# Altium schematic symbol library ICs.SchLib: 162 symbols (part 2 of 2)
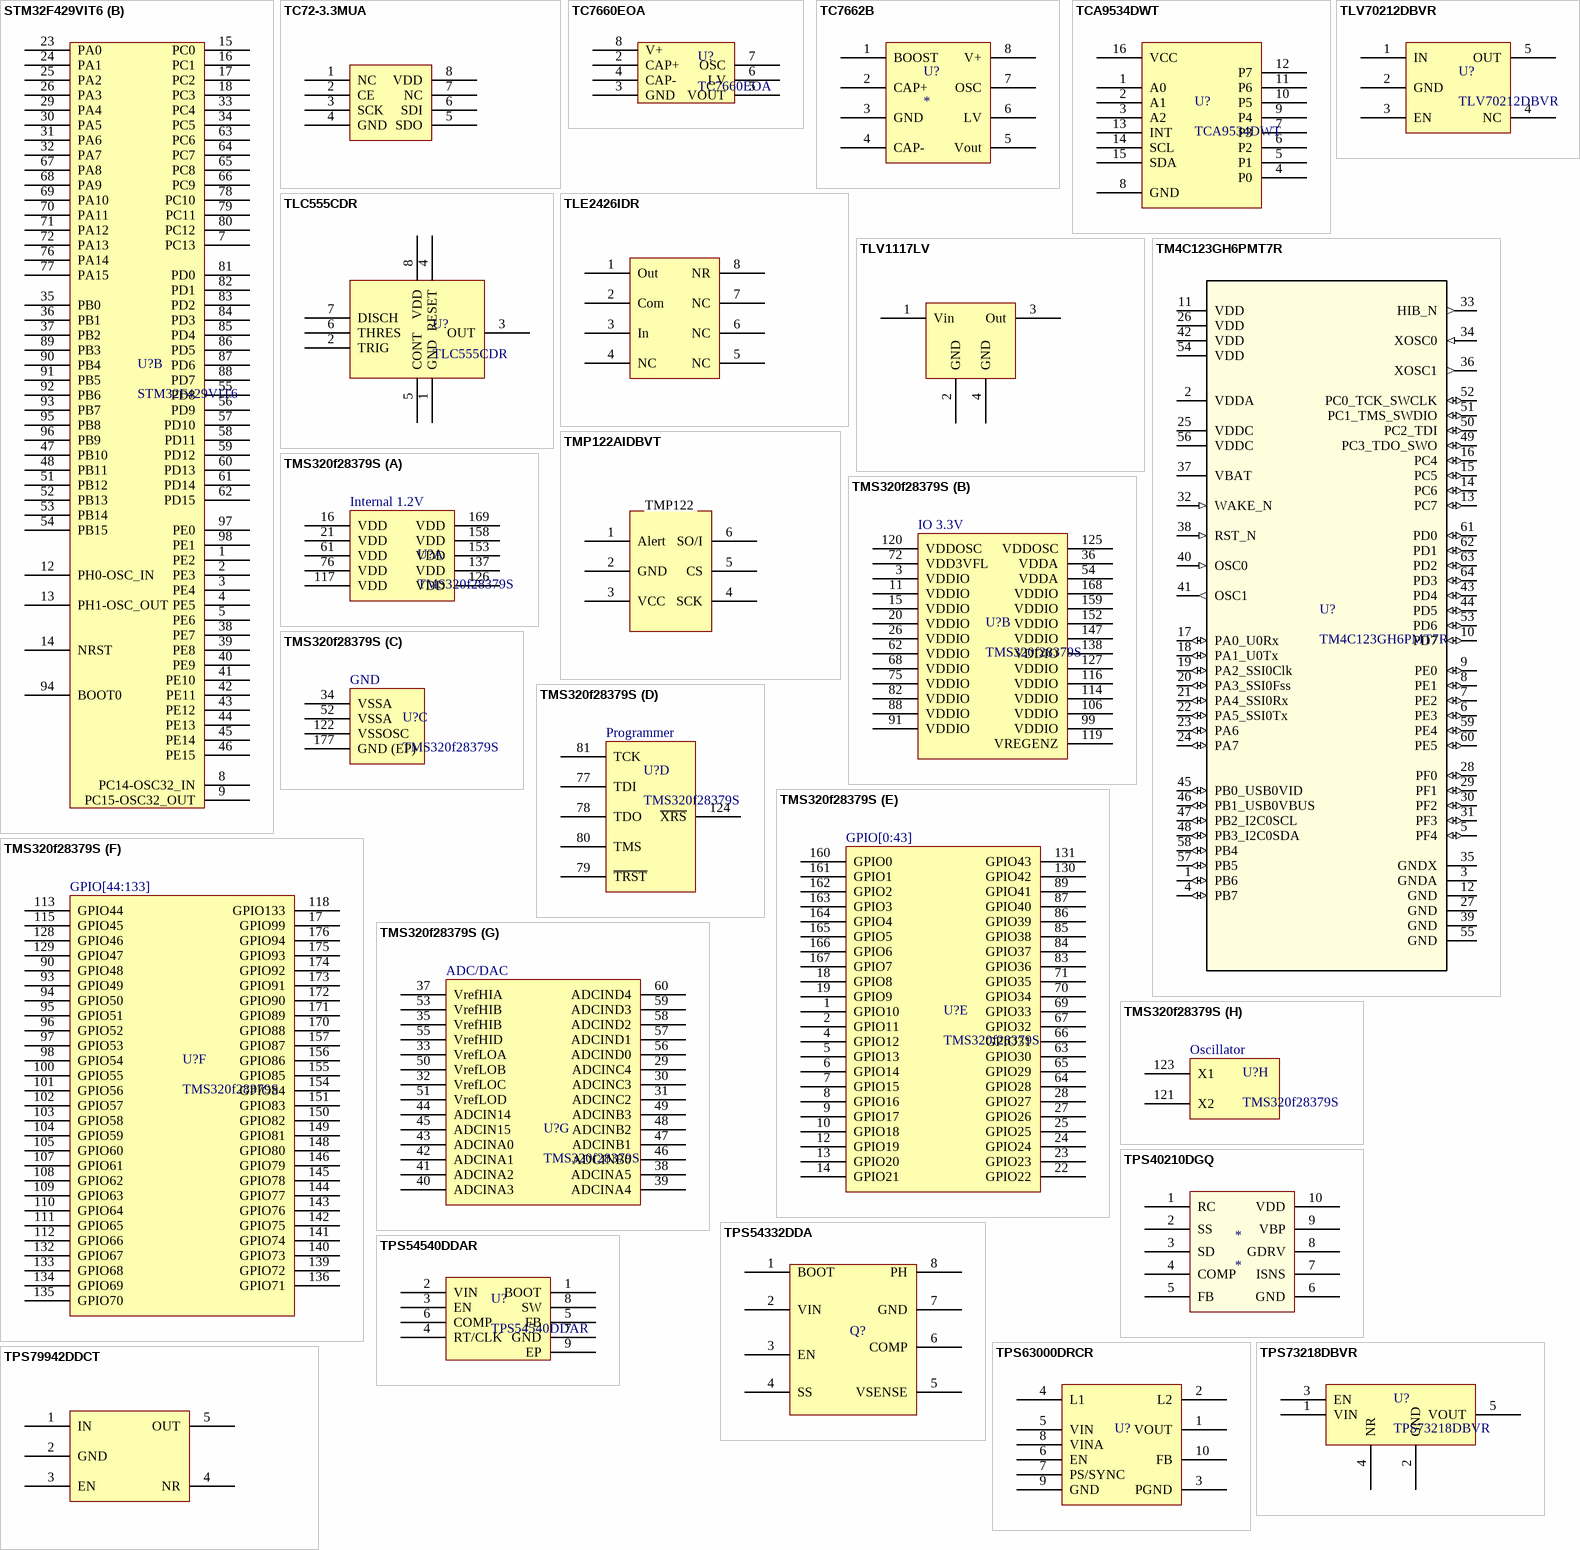
[diagram p9: symbols STM32F429VIT6 to TPS79942DDCT]

## TCA9534DWT
designator U?
IC I/O EXPANDER I2C 8B 16-SOIC; Manufacturer 1: Texas Instruments; Supplier 1: Digi-Key; Supplier Part Number 1: 296-45201-1-ND; Manufacturer Part Number 1: TCA9534DWT; ComponentLink1URL: http://www.ti.com/lit/ds/symlink/tca9534.pdf; ComponentLink1Description: Datasheet; ComponentLink2URL: http://www.ti.com/product/TCA9534/technicaldocuments; ComponentLink2Description: Website
footprint TCA9534DWT (IC I/O EXPANDER I2C 8B 16SOIC)
pins: 1 A0, 2 A1, 3 A2, 4 P0, 5 P1, 6 P2, 7 P3, 8 GND, 9 P4, 10 P5, 11 P6, 12 P7, 13 INT, 14 SCL, 15 SDA, 16 VCC

## TLC555CDR
designator U?
IC OSC MONO TIMING 2.1MHZ 8-SOIC; Supplier 1: Digi-Key; Supplier Part Number 1: 296-1336-1-ND
footprint TLC555CDR
pins: 1 GND, 2 TRIG, 3 OUT, 4 RESET, 5 CONT, 6 THRES, 7 DISCH, 8 VDD

## TLE2426IDR
designator U?, comment VRef Adj 2-20V
IC VREF GND REF ADJ 8SOIC; Supplier 1: Digi-Key; Supplier Part Number 1: 296-1345-1-ND
footprint SOIC-8pin (For 296-1345-1-ND)
pins: 1 Out, 2 Com, 3 In, 4 NC, 5 NC, 6 NC, 7 NC, 8 NR

## TLV1117LV
designator U?, comment 3.3V LDO Reg
IC REG LDO 3.3V 1A SOT223; Supplier 1: Digi-Key; Supplier Part Number 1: LM3940IMPX-3.3/NOPBCT-ND
footprint SOT23-4n (SOT223, 4-Leads, Body 6.50x7.00mm (avg), Pitch 2.30mm, IPC Medium Density)
pins: 1 Vin, 2 GND, 3 Out, 4 GND

## TLV70212DBVR
designator U?
IC REG LDO 1.2V 0.3A SOT23-5; Supplier 1: Digi-Key; Supplier Part Number 1: 296-29583-1-ND
footprint SOT23-5N (For LP5907)
pins: 1 IN, 2 GND, 3 EN, 4 NC, 5 OUT

## TM4C123GH6PMT7R
designator U?
Imported; PartNumber: TM4C123GH6PMTR; Manufacturer: Texas Instruments; CompType: IC; PIN_COUNT: 64; Application_BuildNumber: *; Alternate_PartNumber: TM4C123GH6PMT; PackageReference: PM0064A; MountType: SMT; RoHS: Y; RefDes: RefDes; TYPE: TYPE; Value: Value
footprint TM4C123GH6PMT7R_L
footprint TM4C123GH6PMT7R_M
footprint TM4C123GH6PMT7R_N
pins: 1 PB6 (io), 2 VDDA (power), 3 GNDA (power), 4 PB7 (io), 5 PF4 (io), 6 PE3 (io), 7 PE2 (io), 8 PE1 (io), 9 PE0 (io), 10 PD7 (io), 11 VDD (power), 12 GND (power), 13 PC7 (io), 14 PC6 (io), 15 PC5 (io), 16 PC4 (io), 17 PA0_U0Rx (io), 18 PA1_U0Tx (io), 19 PA2_SSI0Clk (io), 20 PA3_SSI0Fss (io), 21 PA4_SSI0Rx (io), 22 PA5_SSI0Tx (io), 23 PA6 (io), 24 PA7 (io), 25 VDDC (power), 26 VDD (power), 27 GND (power), 28 PF0 (io), 29 PF1 (io), 30 PF2 (io), 31 PF3 (io), 32 WAKE_N (in), 33 HIB_N (out), 34 XOSC0 (in), 35 GNDX (power), 36 XOSC1 (out), 37 VBAT (power), 38 RST_N (in), 39 GND (power), 40 OSC0 (in), 41 OSC1 (out), 42 VDD (power), 43 PD4 (io), 44 PD5 (io), 45 PB0_USB0VID (io), 46 PB1_USB0VBUS (io), 47 PB2_I2C0SCL (io), 48 PB3_I2C0SDA (io), 49 PC3_TDO_SWO (io), 50 PC2_TDI (io), 51 PC1_TMS_SWDIO (io), 52 PC0_TCK_SWCLK (io), 53 PD6 (io), 54 VDD (power), 55 GND (power), 56 VDDC (power), 57 PB5 (io), 58 PB4 (io), 59 PE4 (io), 60 PE5 (io), 61 PD0 (io), 62 PD1 (io), 63 PD2 (io), 64 PD3 (io)

## TMP122AIDBVT
designator TMP?, comment 296-15178-1-ND
SPI Temperature Sensor
footprint TMP122AIDBVT (SOT23)
pins: 1 Alert, 2 GND, 3 VCC, 4 SCK, 5 CS, 6 SO/I
text: TMP122 / TMP122AIDBVT

## TMS320f28379S
designator U?
IC MCU 200MHZ FPU DSP; Supplier 1: Digi-Key; Supplier Part Number 1: TMS320F28379SPTPT-ND
footprint PQFP-177N (TSQFP, 176-Leads, Body 24.00x24.00mm, Pitch 0.50mm, Thermal Pad 8.07x7.33mm, IPC Medium Density)
part A pins: 16 VDD, 21 VDD, 61 VDD, 76 VDD, 117 VDD, 126 VDD, 137 VDD, 153 VDD, 158 VDD, 169 VDD
part B pins: 3 VDDIO, 11 VDDIO, 15 VDDIO, 20 VDDIO, 26 VDDIO, 36 VDDA, 54 VDDA, 62 VDDIO, 68 VDDIO, 72 VDD3VFL, 75 VDDIO, 82 VDDIO, 88 VDDIO, 91 VDDIO, 99 VDDIO, 106 VDDIO, 114 VDDIO, 116 VDDIO, 119 VREGENZ, 120 VDDOSC, 125 VDDOSC, 127 VDDIO, 138 VDDIO, 147 VDDIO, 152 VDDIO, 159 VDDIO, 168 VDDIO
part C pins: 34 VSSA, 52 VSSA, 122 VSSOSC, 177 GND (EP)
part D pins: 77 TDI, 78 TDO, 79 ~{TRST}, 80 TMS, 81 TCK, 124 ~{XRS}
part E pins: 1 GPIO10, 2 GPIO11, 4 GPIO12, 5 GPIO13, 6 GPIO14, 7 GPIO15, 8 GPIO16, 9 GPIO17, 10 GPIO18, 12 GPIO19, 13 GPIO20, 14 GPIO21, 18 GPIO8, 19 GPIO9, 22 GPIO22, 23 GPIO23, 24 GPIO24, 25 GPIO25, 27 GPIO26, 28 GPIO27, 63 GPIO30, 64 GPIO28, 65 GPIO29, 66 GPIO31, 67 GPIO32, 69 GPIO33, 70 GPIO34, 71 GPIO35, 83 GPIO36, 84 GPIO37, 85 GPIO38, 86 GPIO39, 87 GPIO40, 89 GPIO41, 130 GPIO42, 131 GPIO43, 160 GPIO0, 161 GPIO1, 162 GPIO2, 163 GPIO3, 164 GPIO4, 165 GPIO5, 166 GPIO6, 167 GPIO7
part F pins: 17 GPIO99, 90 GPIO48, 93 GPIO49, 94 GPIO50, 95 GPIO51, 96 GPIO52, 97 GPIO53, 98 GPIO54, 100 GPIO55, 101 GPIO56, 102 GPIO57, 103 GPIO58, 104 GPIO59, 105 GPIO60, 107 GPIO61, 108 GPIO62, 109 GPIO63, 110 GPIO64, 111 GPIO65, 112 GPIO66, 113 GPIO44, 115 GPIO45, 118 GPIO133, 128 GPIO46, 129 GPIO47, 132 GPIO67, 133 GPIO68, 134 GPIO69, 135 GPIO70, 136 GPIO71, 139 GPIO72, 140 GPIO73, 141 GPIO74, 142 GPIO75, 143 GPIO76, 144 GPIO77, 145 GPIO78, 146 GPIO79, 148 GPIO80, 149 GPIO81, 150 GPIO82, 151 GPIO83, 154 GPIO84, 155 GPIO85, 156 GPIO86, 157 GPIO87, 170 GPIO88, 171 GPIO89, 172 GPIO90, 173 GPIO91, 174 GPIO92, 175 GPIO93, 176 GPIO94
part G pins: 29 ADCINC4, 30 ADCINC3, 31 ADCINC2, 32 VrefLOC, 33 VrefLOA, 35 VrefHIB, 37 VrefHIA, 38 ADCINA5, 39 ADCINA4, 40 ADCINA3, 41 ADCINA2, 42 ADCINA1, 43 ADCINA0, 44 ADCIN14, 45 ADCIN15, 46 ADCINB0, 47 ADCINB1, 48 ADCINB2, 49 ADCINB3, 50 VrefLOB, 51 VrefLOD, 53 VrefHIB, 55 VrefHID, 56 ADCIND0, 57 ADCIND1, 58 ADCIND2, 59 ADCIND3, 60 ADCIND4
part H pins: 121 X2, 123 X1
part A text: Internal 1.2V
part B text: IO 3.3V
part C text: GND
part D text: Programmer
part E text: GPIO[0:43]
part F text: GPIO[44:133]
part G text: ADC/DAC
part H text: Oscillator

## TPS40210DGQ
designator *
footprint TPS40210
pins: 1 RC, 2 SS, 3 SD, 4 COMP, 5 FB, 6 GND, 7 ISNS, 8 GDRV, 9 VBP, 10 VDD

## TPS54332DDA
designator Q?  (value not drawn)
IC REG BUCK ADJ 3.5A 8SOPWRPAD; Supplier 1: Digi-Key; Supplier Part Number 1: 296-24141-5-ND
footprint TPS54332DDA (IC REG BUCK ADJ 3.5A 8SOPWRPAD)
pins: 1 BOOT, 2 VIN, 3 EN, 4 SS, 5 VSENSE, 6 COMP, 7 GND, 8 PH

## TPS54540DDAR
designator U?
IC REG BUCK SPLIT RAIL 8SOPWRPAD; Manufacturer 1: Texas Instruments; Manufacturer Part Number 1: TPS54540DDAR; Supplier Part Number 1: 296-39422-1-ND; Supplier 1: Digi-Key
footprint SOIC-8 EP (SOIC, 8-Leads, Body 4.90x3.90mm, Pitch 1.27mm, Thermal Pad 3.10x2.40mm, IPC Medium Density)
pins: 1 BOOT, 2 VIN, 3 EN, 4 RT/CLK, 5 FB, 6 COMP, 7 GND, 8 SW, 9 EP

## TPS63000DRCR
designator U?  (value not drawn)
Buck-Boost Switching Regulator IC Positive Adjustable 1.2V 1 Output 1.6A (Switch) 10-VFDFN Exposed Pad; Manufacturer 1: Texas Instruments; ComponentLink1Description: Datasheet; ComponentLink1URL: http://www.ti.com/lit/ds/symlink/tps63002.pdf; ComponentLink2Description: Website; ComponentLink2URL: http://www.ti.com/product/TPS63002/description; Supplier 1: Digi-Key; Supplier Part Number 1: 296-19641-1-ND; Manufacturer Part Number 1: TPS63000DRCR
footprint TPS63000DRCR (IC REG BUCK BOOST ADJ 1.6A 10SON)
pins: 1 VOUT, 2 L2, 3 PGND, 4 L1, 5 VIN, 6 EN, 7 PS/SYNC, 8 VINA, 9 GND, 10 FB

## TPS73218DBVR
designator U?
IC REG LDO 1.8V 0.25A SOT23-5; Manufacturer 1: Texas Instruments; Manufacturer Part Number 1: TPS73218DBVR; Supplier Part Number 1: 296-41770-1-ND; Supplier 1: Digi-Key
footprint SOT-23-5 (SOT23, 5-Leads, Body 2.90x2.80mm, Pitch 0.95mm, IPC Medium Density)
pins: 1 VIN, 2 GND (power), 3 EN, 4 NR, 5 VOUT

## TPS79942DDCT
designator U?, comment LDO 4.2V
IC REG LDO 4.2V 0.2A 5SOT; Supplier 1: Digi-Key; Supplier Part Number 1: 296-32585-1-ND
footprint SOT23127P600-8N (Logic Level Shifter)
pins: 1 IN, 2 GND, 3 EN, 4 NR, 5 OUT

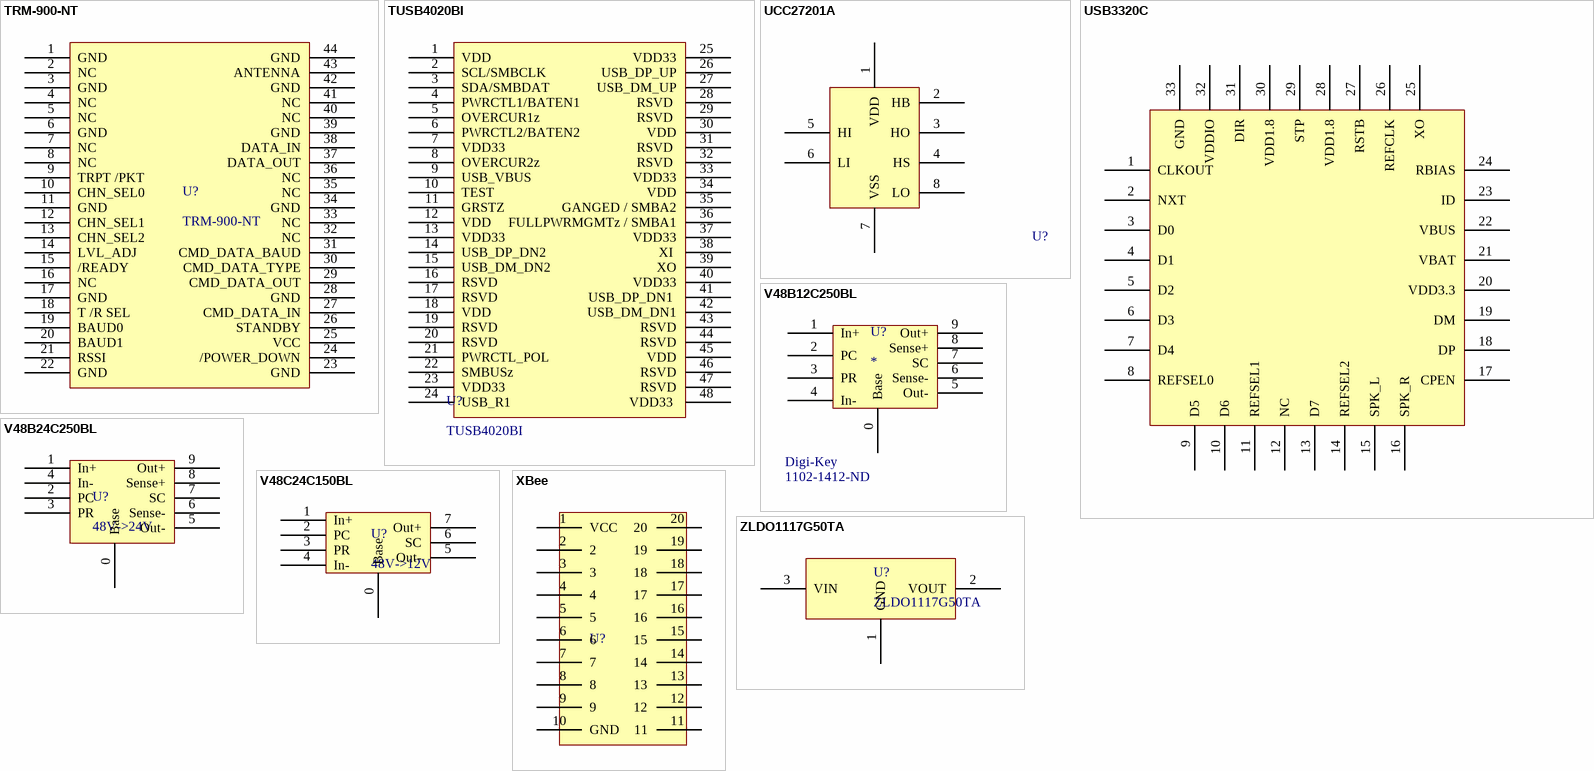
[diagram p8: symbols TRM-900-NT to ZLDO1117G50TA]

## TRM-900-NT
designator U?
RF TXRX MODULE ISM<1GHZ; Manufacturer 1: Linx; Supplier 1: Digi-Key; Supplier Part Number 1: TRM-900-NT-ND; Manufacturer Part Number 1: TRM-900-NT
footprint TRM-900-NT (RF TXRX MODULE ISM<1GHZ)
pins: 1 GND, 2 NC, 3 GND, 4 NC, 5 NC, 6 GND, 7 NC, 8 NC, 9 TRPT /PKT, 10 CHN_SEL0, 11 GND, 12 CHN_SEL1, 13 CHN_SEL2, 14 LVL_ADJ, 15 /READY, 16 NC, 17 GND, 18 T /R SEL, 19 BAUD0, 20 BAUD1, 21 RSSI, 22 GND, 23 GND, 24 /POWER_DOWN, 25 VCC, 26 STANDBY, 27 CMD_DATA_IN, 28 GND, 29 CMD_DATA_OUT, 30 CMD_DATA_TYPE, 31 CMD_DATA_BAUD, 32 NC, 33 NC, 34 GND, 35 NC, 36 NC, 37 DATA_OUT, 38 DATA_IN, 39 GND, 40 NC, 41 NC, 42 GND, 43 ANTENNA, 44 GND

## TUSB4020BI
designator U?
IC USB 2.0 2PORT HUB IND 48HTQFP; Supplier 1: Digi-Key; Supplier Part Number 1: 296-43148-5-ND
footprint 48HTQFP (TSQFP, S-PQFP-G48, 48-Leads, Body 7.00x7.00mm, Pitch 0.50mm, IPC Medium Density)
pins: 1 VDD, 2 SCL/SMBCLK, 3 SDA/SMBDAT, 4 PWRCTL1/BATEN1, 5 OVERCUR1z, 6 PWRCTL2/BATEN2, 7 VDD33, 8 OVERCUR2z, 9 USB_VBUS, 10 TEST, 11 GRSTZ, 12 VDD, 13 VDD33, 14 USB_DP_DN2, 15 USB_DM_DN2 , 16 RSVD, 17 RSVD , 18 VDD, 19 RSVD, 20 RSVD, 21 PWRCTL_POL, 22 SMBUSz , 23 VDD33, 24 USB_R1 , 25 VDD33, 26 USB_DP_UP, 27 USB_DM_UP, 28 RSVD , 29 RSVD , 30 VDD, 31 RSVD , 32 RSVD , 33 VDD33, 34 VDD, 35 GANGED / SMBA2, 36 FULLPWRMGMTz / SMBA1, 37 VDD33, 38 XI , 39 XO, 40 VDD33, 41 USB_DP_DN1 , 42 USB_DM_DN1, 43 RSVD, 44 RSVD, 45 VDD, 46 RSVD, 47 RSVD, 48 VDD33 

## UCC27201A
designator U?  (value not drawn)
IC DVR HIGH/LOW SIDE 3A 8SOPWR; Supplier 1: Digi-Key; Supplier Part Number 1: 296-29356-1-ND
footprint UCC27201ADRMT (IC DVR HIGH/LOW SIDE 3A 8VSON)
footprint UCC27201A (120-V Boot, 3-A Peak, High Frequency, High-side/Low-side Driver)
pins: 1 VDD, 2 HB, 3 HO, 4 HS, 5 HI, 6 LI, 7 VSS, 8 LO

## USB3320C
designator U?
MULTI-FREQ USB 2.0 ULPI PHY; Supplier Part Number 1: USB3320C-EZK-ND; Supplier 1: Digi-Key
footprint QFN-32 (QFN, 32-Leads, Body 5.00x5.00mm, Pitch 0.50mm, Thermal Pad 3.30x3.30mm, IPC Medium Density)
pins: 1 CLKOUT, 2 NXT, 3 D0, 4 D1, 5 D2, 6 D3, 7 D4, 8 REFSEL0, 9 D5, 10 D6, 11 REFSEL1, 12 NC, 13 D7, 14 REFSEL2, 15 SPK_L, 16 SPK_R, 17 CPEN, 18 DP, 19 DM, 20 VDD3.3, 21 VBAT, 22 VBUS, 23 ID, 24 RBIAS, 25 XO, 26 REFCLK, 27 RSTB, 28 VDD1.8, 29 STP, 30 VDD1.8, 31 DIR, 32 VDDIO, 33 GND

## V48B12C250BL
designator U?  Supplier1: Digi-Key  Supplier Part Number 1: 1102-1412-ND
CONVERTER MOD DC/DC 12V 250W
footprint FASTRAK_MINI_ONBOARD_MOUNT
pins: 0 Base, 1 In+, 2 PC, 3 PR, 4 In-, 5 Out-, 6 Sense-, 7 SC, 8 Sense+, 9 Out+

## V48B24C250BL
designator U?, comment 48V->24V
CONVERTER MOD DC/DC 24V 250W; Supplier 1: Digi-Key; Supplier Part Number 1: 1102-1414-ND
footprint FASTRAK_MINI_ONBOARD_MOUNT
pins: 0 Base, 1 In+, 2 PC, 3 PR, 4 In-, 5 Out-, 6 Sense-, 7 SC, 8 Sense+, 9 Out+

## V48C24C150BL
designator U?, comment 48V->12V
CONVERTER MOD DC/DC 24V 150W; Supplier 1: Digi-Key; Supplier Part Number 1: 1102-1423-ND
footprint FASTRAK_MICRO_ONBOARD_MOUNT
pins: 0 Base, 1 In+, 2 PC, 3 PR, 4 In-, 5 Out-, 6 SC, 7 Out+

## XBee
designator U?  (value not drawn)
XBee radio; Supplier 1: Digi-Key; Supplier Part Number 1: 602-1181-ND
footprint XBee
pins: 1 VCC, 2, 3, 4, 5, 6, 7, 8, 9, 10 GND, 11, 12, 13, 14, 15, 16, 17, 18, 19, 20

## ZLDO1117G50TA
designator U?
IC REG LDO 5V 1A SOT223-3; Supplier 1: Digi-Key; Supplier Part Number 1: ZLDO1117G50DICT-ND
footprint ZLDO1117G50TA
pins: 1 GND (power), 2 VOUT, 3 VIN